# Altium schematic symbol library 47053-1000.SchLib: 1 symbol
Pins are listed as number, name and electrical type; pins without a type are passive.

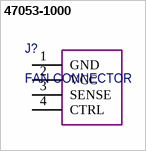
[diagram p0: symbol 47053-1000]

## 47053-1000
designator J?, comment FAN CONNECTOR
pins: 1 GND, 2 VCC, 3 SENSE, 4 CTRL